# Altium footprint library FuzzyWasp.PcbLib: 36 footprints (part 2 of 3)
Each footprint in its own frame and in the unit in brackets; x right, y up, seen from the top. Pads: shape width x height; smd on the part's side, far side on the other; paste and mask are expansions set on the pad; w line width, h text height; cw(c..) or ccw(c..) is an arc to the next point about the centre after c.
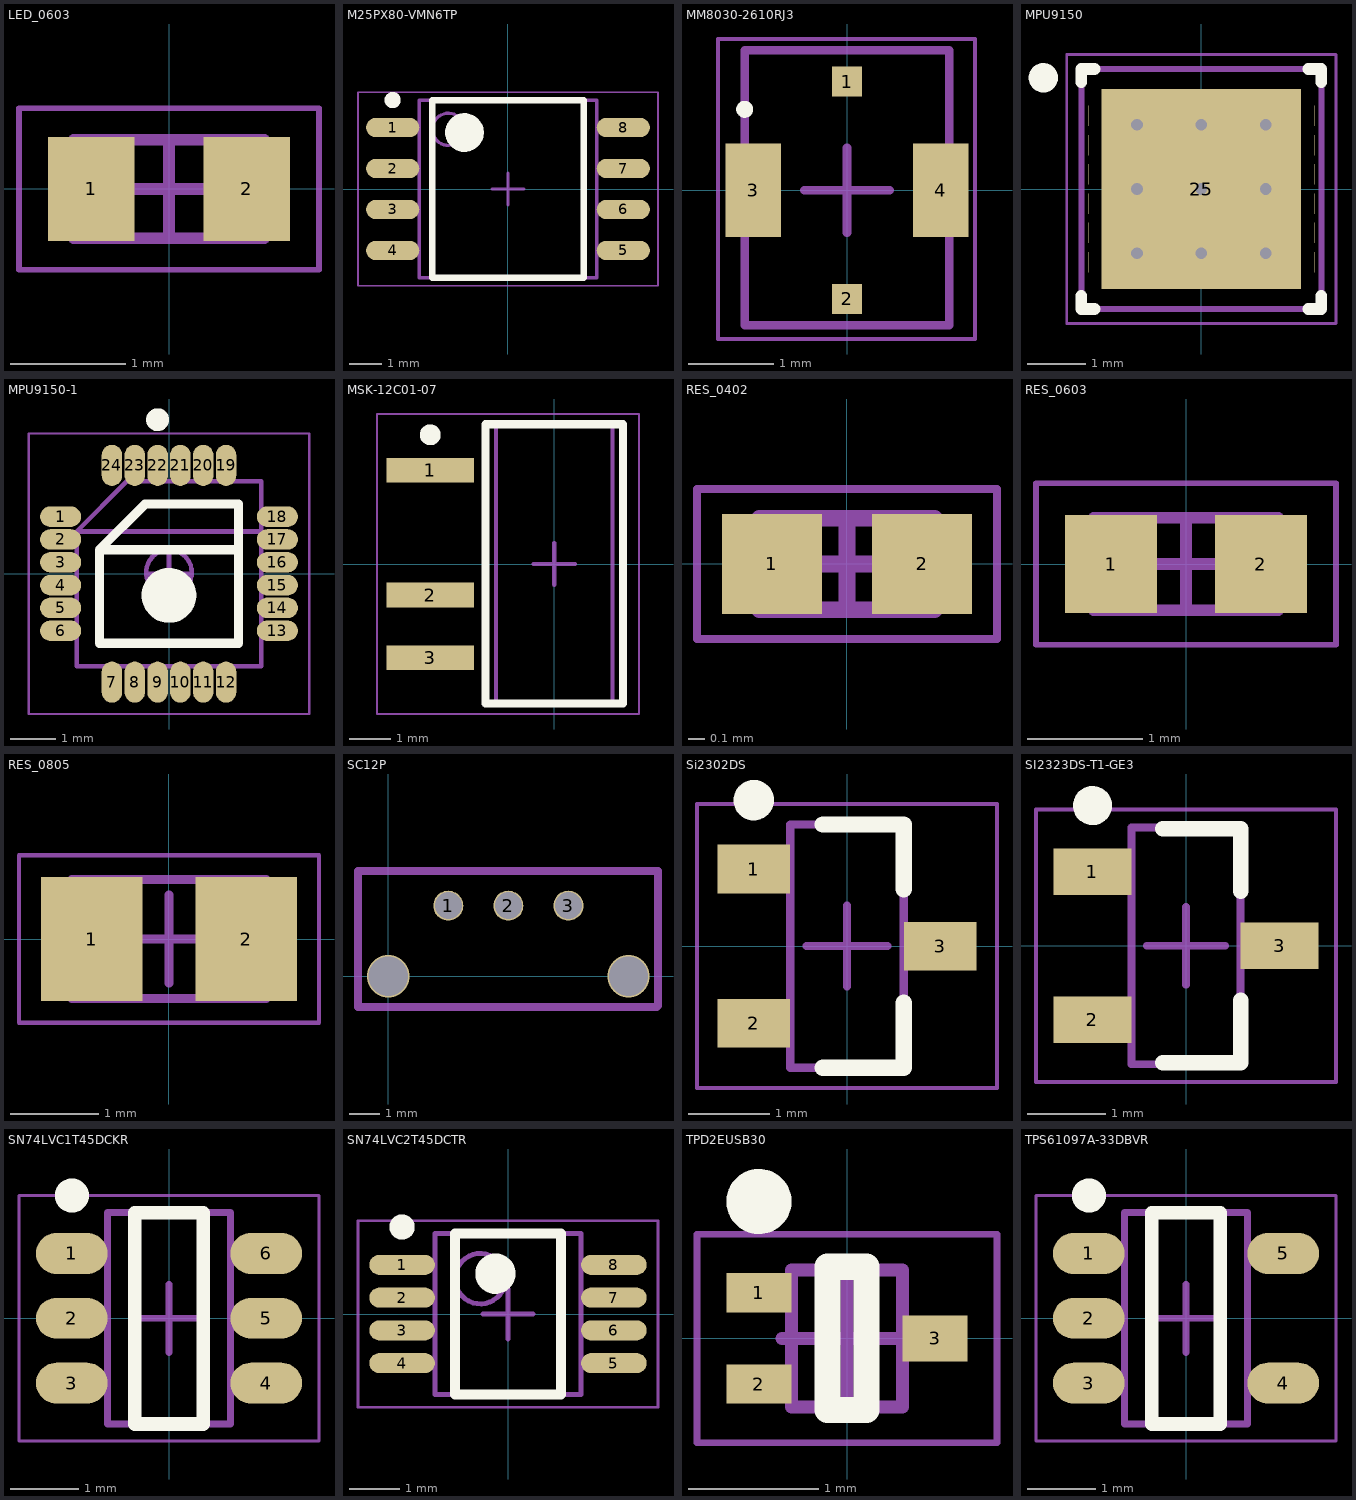
[diagram p1: the footprints below, top view; thin cyan lines are the x and y axes]

## LED_0603 [mm] "LY Q976-P1S2-36"
height 0.8
pads (2):
  rect 0.75x0.9 smd: 1(-0.675,0) 2(0.675,0)
Mechanical 13:
  lines w0.1: -0.825,-0.425 -0.825,0.425 0.825,0.425 0.825,-0.425 -0.825,-0.425
Mechanical 15:
  lines w0.05: -1.3,-0.7 -1.3,0.7 1.3,0.7 1.3,-0.7 -1.3,-0.7
  lines w0.1: -0.425,0 0.425,0 ; 0,-0.425 0,0.425
3D body: height 0.8, standoff 0, extent -0.425,-0.425 0.425,0.425
3D body: height 0.8, standoff 0, extent -0.825,-0.425 -0.425,0.425
3D body: height 0.8, standoff 0, extent 0.425,-0.425 0.825,0.425

## M25PX80-VMN6TP [mm]
height 1.91
pads (8):
  oval 1.65x0.6 smd: 1(-3.575,1.905) 2(-3.575,0.635) 3(-3.575,-0.635) 4(-3.575,-1.905) 5(3.575,-1.905) 6(3.575,-0.635) 7(3.575,0.635) 8(3.575,1.905)
Top Overlay:
  circle w0.6: c-1.35,1.75 r0.3
  circle w0.25: c-3.575,2.755 r0.125
  lines w0.2: -2.35,-2.75 2.35,-2.75 2.35,2.75 -2.35,2.75 -2.35,-2.75
Mechanical 13:
  circle w0.1: c-1.85,1.85 r0.5
  lines w0.1: -2.75,-2.75 2.75,-2.75 2.75,2.75 -2.75,2.75 -2.75,-2.75
Mechanical 15:
  lines w0.05: -4.65,-3 4.65,-3 4.65,3 -4.65,3 -4.65,-3
  lines w0.1: -0.5,0 0.5,0 ; 0,-0.5 0,0.5
3D body: height 1.91, standoff 0.25, extent -2.75,-2.75 2.75,2.75

## MM8030-2610RJ3 [mm]
height 1.25
pads (4):
  rect 0.35x0.35 smd: 1(0,1.275) 2(0,-1.275)
  rect 0.65x1.1 smd: 3(-1.1,0) 4(1.1,0)
Top Overlay:
  circle w0.1: c-1.2,0.95 r0.05
Mechanical 13:
  lines w0.1: -1.2,-1.582 -1.2,1.641 1.2,1.641 1.2,-1.582 -1.2,-1.582
Mechanical 15:
  lines w0.05: -1.514,-1.745 -1.514,1.775 1.501,1.775 1.501,-1.745 -1.514,-1.745
  lines w0.1: -0.5,0 0.5,0 ; 0,-0.5 0,0.5
3D body: height 1.25, standoff 0.2, extent -1.2,-1.582 1.2,1.577

## MPU9150 [mm] "PQFN, 24-Leads, Body 4.00x4.00mm, Pitch 0.50mm, Thermal Pad 3.41x3.41mm, IPC Medium Density"
height 1.1
pads (25):
  oval 0x0.35 smd: 1(-1.925,1.25) 2(-1.925,0.75) 3(-1.925,0.25) 4(-1.925,-0.25) 5(-1.925,-0.75) 6(-1.925,-1.25) 13(1.925,-1.25) 14(1.925,-0.75) 15(1.925,-0.25) 16(1.925,0.25) 17(1.925,0.75) 18(1.925,1.25)
  oval 0.35x0 smd: 7(-1.25,-1.925) 8(-0.75,-1.925) 9(-0.25,-1.925) 10(0.25,-1.925) 11(0.75,-1.925) 12(1.25,-1.925) 19(1.25,1.925) 20(0.75,1.925) 21(0.25,1.925) 22(-0.25,1.925) 23(-0.75,1.925) 24(-1.25,1.925)
  rect 3.41x3.41 smd: 25(0,0)
via 1.1,-1.1 diameter 0.5 hole 0.2
via 0,-1.1 diameter 0.5 hole 0.2
via -1.1,-1.1 diameter 0.5 hole 0.2
via 1.1,0 diameter 0.5 hole 0.2
via 0,0 diameter 0.5 hole 0.2
via -1.1,0 diameter 0.5 hole 0.2
via 1.1,1.1 diameter 0.5 hole 0.2
via 0,1.1 diameter 0.5 hole 0.2
via -1.1,1.1 diameter 0.5 hole 0.2
Top Overlay:
  circle w0.25: c-2.7,1.9 r0.125
  lines w0.2: -2.05,-1.825 -2.05,-2.05 -1.825,-2.05 ; -2.05,1.825 -2.05,2.05 -1.825,2.05 ; 1.825,-2.05 2.05,-2.05 2.05,-1.825 ; 1.825,2.05 2.05,2.05 2.05,1.825
Mechanical 13:
  circle w0.1: c-1.15,1.15 r0.5
  lines w0.1: -2.05,-2.05 2.05,-2.05 2.05,2.05 -2.05,2.05 -2.05,-2.05
Mechanical 15:
  lines w0.05: -2.3,-2.3 2.3,-2.3 2.3,2.3 -2.3,2.3 -2.3,-2.3
  lines w0.1: -0.5,0 0.5,0 ; 0,-0.5 0,0.5
3D body: height 1.1, standoff 0.11, extent -2.05,-2.05 2.05,2.05

## MPU9150-1 [mm] "Leaded Chip Carrier, 24-Leads, Body 4.85x4.85mm, Pitch 0.500mm, IPC Medium Density"
height 1.1
pads (24):
  oval 0.9x0.45 smd: 1(-2.375,1.25) 2(-2.375,0.75) 3(-2.375,0.25) 4(-2.375,-0.25) 5(-2.375,-0.75) 6(-2.375,-1.25) 13(2.375,-1.25) 14(2.375,-0.75) 15(2.375,-0.25) 16(2.375,0.25) 17(2.375,0.75) 18(2.375,1.25)
  oval 0.45x0.9 smd: 7(-1.25,-2.375) 8(-0.75,-2.375) 9(-0.25,-2.375) 10(0.25,-2.375) 11(0.75,-2.375) 12(1.25,-2.375) 19(1.25,2.375) 20(0.75,2.375) 21(0.25,2.375) 22(-0.25,2.375) 23(-0.75,2.375) 24(-1.25,2.375)
Top Overlay:
  circle w0.25: c-0.25,3.375 r0.125
  circle w0.6: c0,-0.475 r0.3
  lines w0.2: 1.525,0.525 -1.525,0.525 ; -1.525,0.525 -0.525,1.525 1.525,1.525 1.525,-1.525 -1.525,-1.525 -1.525,0.525
Mechanical 13:
  circle w0.1: c0,0.025 r0.5
  lines w0.1: 2.025,0.925 -2.025,0.925 ; -2.025,0.925 -2.025,-2.025 2.025,-2.025 2.025,2.025 -0.925,2.025 -2.025,0.925
Mechanical 15:
  lines w0.05: -3.075,-3.075 -3.075,3.075 3.075,3.075 3.075,-3.075 -3.075,-3.075
  lines w0.1: -0.5,0 0.5,0 ; 0,-0.5 0,0.5
3D body: height 1.1, standoff 0.15, extent -2.025,-2.025 2.025,2.025

## MSK-12C01-07 [mm]
height 1.8
pads (3):
  rect 2.1x0.6 smd: 1(-2.975,2.25) 2(-2.975,-0.75) 3(-2.975,-2.25)
Top Overlay:
  circle w0.25: c-2.975,3.1 r0.125
  lines w0.2: -1.65,-3.35 -1.65,3.35 1.65,3.35 1.65,-3.35 -1.65,-3.35
Mechanical 13:
  lines w0.1: -1.4,-3.325 -1.4,3.325 1.4,3.325 1.4,-3.325 -1.4,-3.325
Mechanical 15:
  lines w0.05: -4.25,-3.6 -4.25,3.6 2.034,3.6 2.034,-3.6 -4.25,-3.6
  lines w0.1: -0.5,0 0.5,0 ; 0,-0.5 0,0.5
3D body: height 1.8, standoff 0.1, extent -1.4,-3.325 1.4,3.325

## RES_0402 [mm]
height 0.45
pads (2):
  rect 0.6x0.6 smd: 1(-0.45,0) 2(0.45,0)
Mechanical 13:
  lines w0.1: -0.525,-0.275 -0.525,0.275 0.525,0.275 0.525,-0.275 -0.525,-0.275
Mechanical 15:
  lines w0.05: -0.9,-0.45 -0.9,0.45 0.9,0.45 0.9,-0.45 -0.9,-0.45
  lines w0.1: -0.275,0 0.275,0 ; 0,-0.275 0,0.275
3D body: height 0.45, standoff 0, extent -0.275,-0.275 0.275,0.275
3D body: height 0.45, standoff 0, extent -0.525,-0.275 -0.275,0.275
3D body: height 0.45, standoff 0, extent 0.275,-0.275 0.525,0.275

## RES_0603 [mm]
height 0.55
pads (2):
  rect 0.8x0.85 smd: 1(-0.65,0) 2(0.65,0)
Mechanical 13:
  lines w0.1: -0.8,-0.4 0.8,-0.4 0.8,0.4 -0.8,0.4 -0.8,-0.4
Mechanical 15:
  lines w0.05: -1.3,-0.7 1.3,-0.7 1.3,0.7 -1.3,0.7 -1.3,-0.7
  lines w0.1: -0.4,0 0.4,0 ; 0,-0.4 0,0.4
3D body: height 0.55, standoff 0, extent 0.5,-0.4 0.8,0.4
3D body: height 0.55, standoff 0, extent -0.8,-0.4 -0.5,0.4
3D body: height 0.55, standoff 0, extent -0.5,-0.4 0.5,0.4

## RES_0805 [mm]
height 0.7
pads (2):
  rect 1.15x1.4 smd: 1(-0.875,0) 2(0.875,0)
Mechanical 13:
  lines w0.1: -1.1,-0.675 -1.1,0.675 1.1,0.675 1.1,-0.675 -1.1,-0.675
Mechanical 15:
  lines w0.05: -1.7,-0.95 -1.7,0.95 1.7,0.95 1.7,-0.95 -1.7,-0.95
  lines w0.1: -0.5,0 0.5,0 ; 0,-0.5 0,0.5
3D body: height 0.7, standoff 0, extent -0.7,-0.675 0.7,0.675
3D body: height 0.7, standoff 0, extent -1.1,-0.675 -0.7,0.675
3D body: height 0.7, standoff 0, extent 0.7,-0.675 1.1,0.675

## SC12P [mm]
pads (3):
  round 1 hole 0.9: 1(2,2.35) 2(4,2.35) 3(6,2.35)
via 0,0 diameter 1.4 hole 1.3
via 8,0 diameter 1.4 hole 1.3
Mechanical 15:
  lines w0.254: -1.007,-1.022 -1.007,3.504 8.985,3.504 8.985,-0.976 8.939,-1.022 -1.007,-1.022 ; -1.007,-1.022 -1.007,-1.022

## Si2302DS [mm] "SOT23, 3-Leads, Body 2.90x2.30mm, Pitch 0.95mm, IPC Medium Density"
height 1.1
pads (3):
  rect 0.9x0.6 smd: 1(-1.15,0.95) 2(-1.15,-0.95) 3(1.15,0)
Top Overlay:
  circle w0.25: c-1.15,1.8 r0.125
  lines w0.2: -0.3,-1.5 0.7,-1.5 0.7,-0.7 ; -0.3,1.5 0.7,1.5 0.7,0.7
Mechanical 13:
  lines w0.1: -0.7,-1.5 0.7,-1.5 0.7,1.5 -0.7,1.5 -0.7,-1.5
Mechanical 15:
  lines w0.05: -1.85,-1.75 1.85,-1.75 1.85,1.75 -1.85,1.75 -1.85,-1.75
  lines w0.1: -0.5,0 0.5,0 ; 0,-0.5 0,0.5
3D body: height 1.1, standoff 0.05, extent -0.7,-1.5 0.7,1.5

## SI2323DS-T1-GE3 [mm] "SOT23, 3-Leads, Body 2.92x2.37mm, Pitch 0.95mm, IPC Medium Density"
height 1.12
pads (3):
  rect 1x0.6 smd: 1(-1.2,0.95) 2(-1.2,-0.95) 3(1.2,0)
Top Overlay:
  circle w0.25: c-1.2,1.8 r0.125
  lines w0.2: -0.3,-1.5 0.7,-1.5 0.7,-0.7 ; -0.3,1.5 0.7,1.5 0.7,0.7
Mechanical 13:
  lines w0.1: -0.7,-1.52 -0.7,1.52 0.7,1.52 0.7,-1.52 -0.7,-1.52
Mechanical 15:
  lines w0.05: -1.925,-1.75 -1.925,1.75 1.925,1.75 1.925,-1.75 -1.925,-1.75
  lines w0.1: -0.5,0 0.5,0 ; 0,-0.5 0,0.5
3D body: height 1.12, standoff 0.1, extent -0.7,-1.52 0.7,1.52

## SN74LVC1T45DCKR [mm] "TSOP, 6-Leads, Body 2.90x1.60mm, Pitch 0.95mm, IPC Medium Density"
height 1.45
pads (6):
  oval 1.05x0.6 smd: 1(-1.425,0.95) 2(-1.425,0) 3(-1.425,-0.95) 4(1.425,-0.95) 5(1.425,0) 6(1.425,0.95)
Top Overlay:
  circle w0.25: c-1.425,1.8 r0.125
  lines w0.2: -0.5,-1.55 0.5,-1.55 0.5,1.55 -0.5,1.55 -0.5,-1.55
Mechanical 13:
  lines w0.1: -0.9,-1.55 0.9,-1.55 0.9,1.55 -0.9,1.55 -0.9,-1.55
Mechanical 15:
  lines w0.05: -2.2,-1.8 2.2,-1.8 2.2,1.8 -2.2,1.8 -2.2,-1.8
  lines w0.1: -0.5,0 0.5,0 ; 0,-0.5 0,0.5
3D body: height 1.45, standoff 0.15, extent -0.9,-1.55 0.9,1.55

## SN74LVC2T45DCTR [mm] "TSOP, 8-Leads, Body 2.95x2.80mm, Pitch 0.65mm, IPC Medium Density"
height 1.35
pads (8):
  oval 1.3x0.4 smd: 1(-2.1,0.975) 2(-2.1,0.325) 3(-2.1,-0.325) 4(-2.1,-0.975) 5(2.1,-0.975) 6(2.1,-0.325) 7(2.1,0.325) 8(2.1,0.975)
Top Overlay:
  circle w0.25: c-2.1,1.725 r0.125
  circle w0.4: c-0.25,0.8 r0.2
  lines w0.2: -1.05,-1.6 -1.05,1.6 1.05,1.6 1.05,-1.6 -1.05,-1.6
Mechanical 13:
  circle w0.1: c-0.55,0.7 r0.5
  lines w0.1: -1.45,-1.6 -1.45,1.6 1.45,1.6 1.45,-1.6 -1.45,-1.6
Mechanical 15:
  lines w0.05: -2.975,-1.85 -2.975,1.85 2.975,1.85 2.975,-1.85 -2.975,-1.85
  lines w0.1: -0.5,0 0.5,0 ; 0,-0.5 0,0.5
3D body: height 1.35, standoff 0.1, extent -1.45,-1.6 1.45,1.6

## TPD2EUSB30 [mm] "SOT223, 3-Leads, Body 1.00x1.00mm (avg), Pitch 0.70mm, IPC Medium Density"
height 0.47
pads (3):
  rect 0.5x0.3 smd: 1(-0.675,0.35) 2(-0.675,-0.35)
  rect 0.5x0.35 smd: 3(0.675,0)
Top Overlay:
  circle w0.25: c-0.675,1.05 r0.125
  lines w0.2: -0.15,-0.55 0.15,-0.55 0.15,0.55 -0.15,0.55 -0.15,-0.55
Mechanical 13:
  lines w0.1: -0.425,-0.525 0.425,-0.525 0.425,0.525 -0.425,0.525 -0.425,-0.525
Mechanical 15:
  lines w0.05: -1.15,-0.8 1.15,-0.8 1.15,0.8 -1.15,0.8 -1.15,-0.8
  lines w0.1: -0.5,0 0.5,0 ; 0,-0.5 0,0.5
3D body: height 0.47, standoff 0.03, extent -0.425,-0.525 0.425,0.525

## TPS61097A-33DBVR [mm]
height 1.45
pads (5):
  oval 1.05x0.6 smd: 1(-1.425,0.95) 2(-1.425,0) 3(-1.425,-0.95) 4(1.425,-0.95) 5(1.425,0.95)
Top Overlay:
  circle w0.25: c-1.425,1.8 r0.125
  lines w0.2: -0.5,-1.55 -0.5,1.55 0.5,1.55 0.5,-1.55 -0.5,-1.55
Mechanical 13:
  lines w0.1: -0.9,-1.55 -0.9,1.55 0.9,1.55 0.9,-1.55 -0.9,-1.55
Mechanical 15:
  lines w0.05: -2.2,-1.8 -2.2,1.8 2.2,1.8 2.2,-1.8 -2.2,-1.8
  lines w0.1: -0.5,0 0.5,0 ; 0,-0.5 0,0.5
3D body: height 1.45, standoff 0.15, extent -0.9,-1.55 0.9,1.55